# Altium footprint library 2019-02-05_22-09-42.PcbLib: 3 footprints
Each footprint in its own frame and in the unit in brackets; x right, y up, seen from the top. Pads: shape width x height; smd on the part's side, far side on the other; paste and mask are expansions set on the pad; w line width, h text height; cw(c..) or ccw(c..) is an arc to the next point about the centre after c.
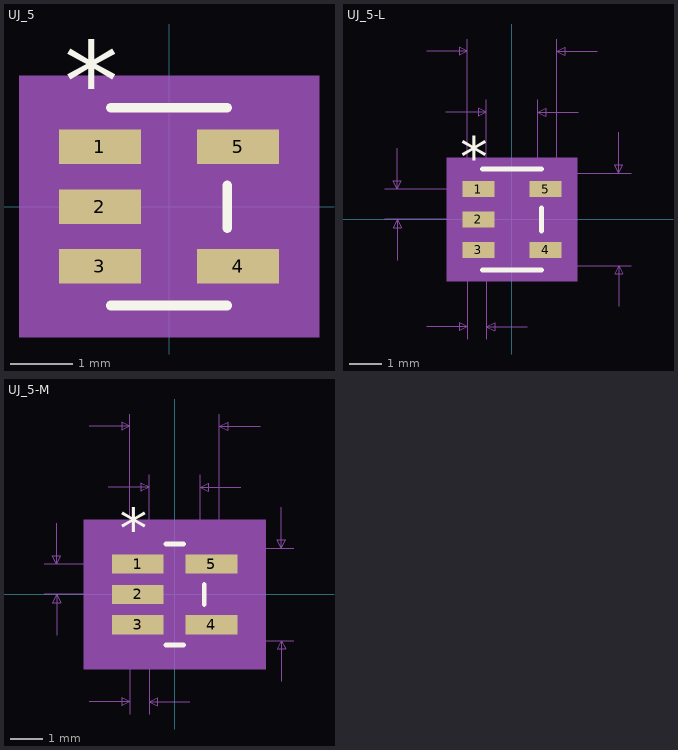
[diagram p0: the footprints below, top view; thin cyan lines are the x and y axes]

## UJ_5 [mm]
pads (5):
  rect 1.311x0.551 smd paste+0 mask+0: 1(-1.1,0.95) 2(-1.1,0) 3(-1.1,-0.95) 4(1.1,-0.95) 5(1.1,0.95)
Top Overlay:
  lines w0.152: -0.927,-1.577 0.927,-1.577 ; -0.927,1.577 0.927,1.577 ; 0.927,-0.342 0.927,0.342
  text "*" at -1.672,1.374 h1.27
Mechanical 5:
  region: 2.391,-2.085 -2.391,-2.085 -2.391,2.085 2.391,2.085
Mechanical 13:
  lines w0: -0.305,1.45 ccw(c0,1.45) 0.305,1.45
  lines w0.025: -1.4,-1.2 -1.4,-0.7 -0.8,-0.7 -0.8,-1.2 -1.4,-1.2 ; -1.4,-0.25 -1.4,0.25 -0.8,0.25 -0.8,-0.25 -1.4,-0.25 ; -1.4,0.7 -1.4,1.2 -0.8,1.2 -0.8,0.7 -1.4,0.7 ; -0.8,-1.45 0.8,-1.45 0.8,1.45 -0.8,1.45 -0.8,-1.45 ; 0.8,-1.2 0.8,-0.7 1.4,-0.7 1.4,-1.2 0.8,-1.2 ; 0.8,0.7 0.8,1.2 1.4,1.2 1.4,0.7 0.8,0.7
  text "*" at -0.864,0.409 h1.27
Mechanical 15:
  region: 1.054,-1.704 -1.054,-1.704 -1.054,-1.479 -2.01,-1.479 -2.01,1.479 -1.054,1.479 -1.054,1.704 1.054,1.704 1.054,1.479 2.01,1.479 2.01,-1.479 1.054,-1.479
  lines w0.152: -2.01,-1.479 -1.054,-1.479 -1.054,-1.704 1.054,-1.704 1.054,-1.479 2.01,-1.479 2.01,1.479 1.054,1.479 1.054,1.704 -1.054,1.704 -1.054,1.479 -2.01,1.479 -2.01,-1.479
3D body "UJ_5.step": height 0.9, standoff 0, extent -1.4,-1.45 1.4,1.45
3D body: height 0.25, standoff 0, extent 0,0 0.254,0.254

## UJ_5-L [mm]
pads (5):
  rect 1.006x0.5 smd paste+0 mask+0: 1(-1.049,0.95) 2(-1.049,0) 3(-1.049,-0.95) 4(1.049,-0.95) 5(1.049,0.95)
Top Overlay:
  lines w0.152: -0.927,-1.577 0.927,-1.577 ; -0.927,1.577 0.927,1.577 ; 0.927,-0.367 0.927,0.367
  text "*" at -1.621,1.323 h1.27
Mechanical 5:
  region: 2.035,-1.933 -2.035,-1.933 -2.035,1.933 2.035,1.933
Mechanical 7:
  lines w0.025: -3.97,0 -1.049,0 ; -3.97,0.95 -1.049,0.95 ; -3.589,-1.27 -3.589,0 ; -3.589,2.22 -3.589,0.95 ; -2.67,-3.355 -1.4,-3.355 ; -2.67,5.26 -1.4,5.26 ; -2.07,3.355 -0.8,3.355 ; -1.4,-3.736 -1.4,0 -1.4,5.641 ; -0.8,-3.736 -0.8,0 -0.8,3.736 ; 0,-1.45 3.721,-1.45 ; 0,1.45 3.721,1.45 ; 0.47,-3.355 -0.8,-3.355 ; 0.8,0 0.8,3.736 ; 1.4,0 1.4,5.641 ; 2.07,3.355 0.8,3.355 ; 2.67,5.26 1.4,5.26 ; 3.34,-2.72 3.34,-1.45 ; 3.34,2.72 3.34,1.45 ; -3.589,0 -3.716,-0.254 -3.462,-0.254 -3.589,0 ; -3.589,0.95 -3.716,1.204 -3.462,1.204 -3.589,0.95 ; -1.4,-3.355 -1.654,-3.228 -1.654,-3.482 -1.4,-3.355 ; -1.4,5.26 -1.654,5.387 -1.654,5.133 -1.4,5.26 ; -0.8,-3.355 -0.546,-3.228 -0.546,-3.482 -0.8,-3.355 ; -0.8,3.355 -1.054,3.482 -1.054,3.228 -0.8,3.355 ; 0.8,3.355 1.054,3.482 1.054,3.228 0.8,3.355 ; 1.4,5.26 1.654,5.387 1.654,5.133 1.4,5.26 ; 3.34,-1.45 3.213,-1.704 3.467,-1.704 3.34,-1.45 ; 3.34,1.45 3.213,1.704 3.467,1.704 3.34,1.45
  text "Default Padstyle: RX39p62Y19p69D0T" at -10.795,-6.53 h1.27
  text "Pin 1 Padstyle: RX39p62Y19p69D0T" at -10.16,-8.054 h1.27
  text "Alt 1 Padstyle: OX60Y90D30P" at -8.572,-12.626 h1.27
  text "Alt 2 Padstyle: OX90Y60D30P" at -8.572,-14.15 h1.27
  text "0.063in/1.6mm" at -2.064,3.863 h0.64
  text "0.11in/2.8mm" at -1.905,5.768 h0.64
  text "0.114in/2.9mm" at 3.848,-0.318 h0.64
  text "0.037in/0.95mm" at -8.542,0.158 h0.64
  text "0.024in/0.6mm" at -3.164,-4.498 h0.64
Mechanical 13:
  lines w0: -0.305,1.45 ccw(c0,1.45) 0.305,1.45
  lines w0.025: -1.4,-1.2 -1.4,-0.7 -0.8,-0.7 -0.8,-1.2 -1.4,-1.2 ; -1.4,-0.25 -1.4,0.25 -0.8,0.25 -0.8,-0.25 -1.4,-0.25 ; -1.4,0.7 -1.4,1.2 -0.8,1.2 -0.8,0.7 -1.4,0.7 ; -0.8,-1.45 0.8,-1.45 0.8,1.45 -0.8,1.45 -0.8,-1.45 ; 0.8,-1.2 0.8,-0.7 1.4,-0.7 1.4,-1.2 0.8,-1.2 ; 0.8,0.7 0.8,1.2 1.4,1.2 1.4,0.7 0.8,0.7
  text "*" at -0.864,0.358 h1.27
Mechanical 15:
  region: 0.902,-1.552 -0.902,-1.552 -0.902,-1.302 -1.654,-1.302 -1.654,1.302 -0.902,1.302 -0.902,1.552 0.902,1.552 0.902,1.302 1.654,1.302 1.654,-1.302 0.902,-1.302
  lines w0.152: -1.654,-1.302 -0.902,-1.302 -0.902,-1.552 0.902,-1.552 0.902,-1.302 1.654,-1.302 1.654,1.302 0.902,1.302 0.902,1.552 -0.902,1.552 -0.902,1.302 -1.654,1.302 -1.654,-1.302
3D body: height 0.25, standoff 0, extent 0,0 0.254,0.254

## UJ_5-M [mm]
pads (5):
  rect 1.616x0.602 smd paste+0 mask+0: 1(-1.151,0.95) 2(-1.151,0) 3(-1.151,-0.95) 4(1.151,-0.95) 5(1.151,0.95)
Top Overlay:
  lines w0.152: -0.277,-1.577 0.277,-1.577 ; -0.277,1.577 0.277,1.577 ; 0.927,-0.316 0.927,0.316
  text "*" at -1.722,1.425 h1.27
Mechanical 5:
  region: 2.848,-2.339 -2.848,-2.339 -2.848,2.339 2.848,2.339
Mechanical 7:
  lines w0.025: -4.072,0 -1.151,0 ; -4.072,0.95 -1.151,0.95 ; -3.691,-1.27 -3.691,0 ; -3.691,2.22 -3.691,0.95 ; -2.67,-3.355 -1.4,-3.355 ; -2.67,5.26 -1.4,5.26 ; -2.07,3.355 -0.8,3.355 ; -1.4,-3.736 -1.4,0 -1.4,5.641 ; -0.8,-3.736 -0.8,0 -0.8,3.736 ; 0,-1.45 3.721,-1.45 ; 0,1.45 3.721,1.45 ; 0.47,-3.355 -0.8,-3.355 ; 0.8,0 0.8,3.736 ; 1.4,0 1.4,5.641 ; 2.07,3.355 0.8,3.355 ; 2.67,5.26 1.4,5.26 ; 3.34,-2.72 3.34,-1.45 ; 3.34,2.72 3.34,1.45 ; -3.691,0 -3.818,-0.254 -3.564,-0.254 -3.691,0 ; -3.691,0.95 -3.818,1.204 -3.564,1.204 -3.691,0.95 ; -1.4,-3.355 -1.654,-3.228 -1.654,-3.482 -1.4,-3.355 ; -1.4,5.26 -1.654,5.387 -1.654,5.133 -1.4,5.26 ; -0.8,-3.355 -0.546,-3.228 -0.546,-3.482 -0.8,-3.355 ; -0.8,3.355 -1.054,3.482 -1.054,3.228 -0.8,3.355 ; 0.8,3.355 1.054,3.482 1.054,3.228 0.8,3.355 ; 1.4,5.26 1.654,5.387 1.654,5.133 1.4,5.26 ; 3.34,-1.45 3.213,-1.704 3.467,-1.704 3.34,-1.45 ; 3.34,1.45 3.213,1.704 3.467,1.704 3.34,1.45
  text "Default Padstyle: RX63p62Y23p69D0T" at -10.795,-6.53 h1.27
  text "Pin 1 Padstyle: RX63p62Y23p69D0T" at -10.16,-8.054 h1.27
  text "Alt 1 Padstyle: OX60Y90D30P" at -8.572,-12.626 h1.27
  text "Alt 2 Padstyle: OX90Y60D30P" at -8.572,-14.15 h1.27
  text "0.063in/1.6mm" at -2.064,3.863 h0.64
  text "0.11in/2.8mm" at -1.905,5.768 h0.64
  text "0.114in/2.9mm" at 3.848,-0.318 h0.64
  text "0.037in/0.95mm" at -8.644,0.158 h0.64
  text "0.024in/0.6mm" at -3.164,-4.498 h0.64
Mechanical 13:
  lines w0: -0.305,1.45 ccw(c0,1.45) 0.305,1.45
  lines w0.025: -1.4,-1.2 -1.4,-0.7 -0.8,-0.7 -0.8,-1.2 -1.4,-1.2 ; -1.4,-0.25 -1.4,0.25 -0.8,0.25 -0.8,-0.25 -1.4,-0.25 ; -1.4,0.7 -1.4,1.2 -0.8,1.2 -0.8,0.7 -1.4,0.7 ; -0.8,-1.45 0.8,-1.45 0.8,1.45 -0.8,1.45 -0.8,-1.45 ; 0.8,-1.2 0.8,-0.7 1.4,-0.7 1.4,-1.2 0.8,-1.2 ; 0.8,0.7 0.8,1.2 1.4,1.2 1.4,0.7 0.8,0.7
  text "*" at -0.864,0.459 h1.27
Mechanical 15:
  region: 1.308,-1.958 -1.308,-1.958 -1.308,-1.759 -2.467,-1.759 -2.467,1.759 -1.308,1.759 -1.308,1.958 1.308,1.958 1.308,1.759 2.467,1.759 2.467,-1.759 1.308,-1.759
  lines w0.152: -2.467,-1.759 -1.308,-1.759 -1.308,-1.958 1.308,-1.958 1.308,-1.759 2.467,-1.759 2.467,1.759 1.308,1.759 1.308,1.958 -1.308,1.958 -1.308,1.759 -2.467,1.759 -2.467,-1.759
3D body: height 0.25, standoff 0, extent 0,0 0.254,0.254